# Altium footprint library 532614004.PcbLib: 3 footprints
Each footprint in its own frame and in the unit in brackets; x right, y up, seen from the top. Pads: shape width x height; smd on the part's side, far side on the other; paste and mask are expansions set on the pad; w line width, h text height; cw(c..) or ccw(c..) is an arc to the next point about the centre after c.
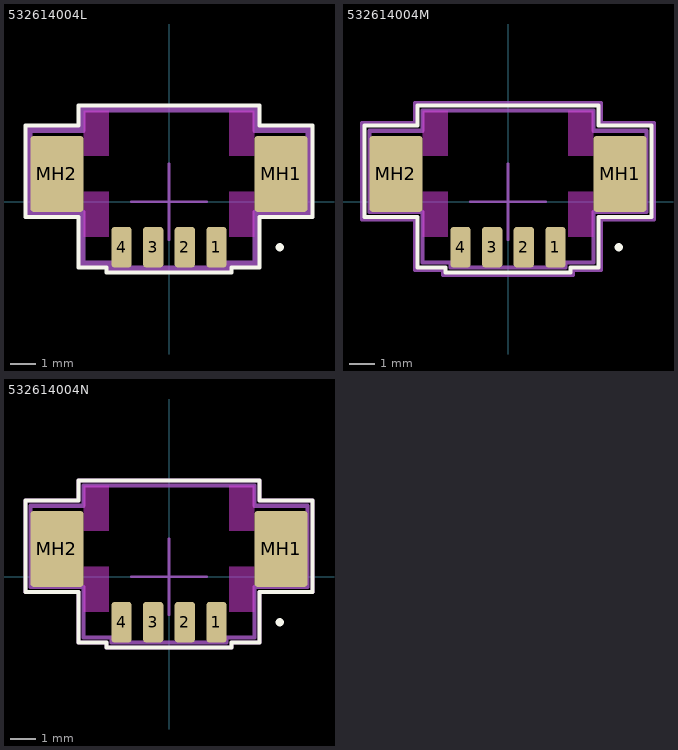
[diagram p0: the footprints below, top view; thin cyan lines are the x and y axes]

## 532614004L [mm] "Molex PicoBlade 4-Pin Right-Angle Connector with Gold Coating"
height 3.4
pads (6):
  rrect31% 0.8x1.6 smd: 1(1.875,-1.8) 2(0.625,-1.8) 3(-0.625,-1.8) 4(-1.875,-1.8)
  rrect12% 2.1x3 smd: MH1(4.425,1.1) MH2(-4.425,1.1)
Top Layer keep-out:
  rectangle: -3.375,3.6 -2.375,1.8
  rectangle: 3.375,3.6 2.375,1.8
  rectangle: -3.375,-1.4 -2.375,0.4
  rectangle: 3.375,-1.4 2.375,0.4
Top Overlay:
  circle w0.16: c4.375,-1.8 r0.08
  lines w0.16: -5.675,-0.6 -3.575,-0.6 -3.575,-2.6 -2.475,-2.6 -2.475,-2.8 2.475,-2.8 2.475,-2.6 3.575,-2.6 3.575,-0.6 5.675,-0.6 5.675,3 3.575,3 3.575,3.8 -3.575,3.8 -3.575,3 -5.675,3 -5.675,-0.6
Top Component Center:
  lines w0.1: -1.5,0 1.5,0 ; 0,-1.5 0,1.5
Top Courtyard:
  lines w0.16: -5.575,-0.5 -3.475,-0.5 -3.475,-2.5 -2.375,-2.5 -2.375,-2.7 2.375,-2.7 2.375,-2.5 3.475,-2.5 3.475,-0.5 5.575,-0.5 5.575,2.9 3.475,2.9 3.475,3.7 -3.475,3.7 -3.475,2.9 -5.575,2.9 -5.575,-0.5
Top Assembly:
  lines w0.16: -5.475,-0.4 -3.375,-0.4 -3.375,-2.4 -2.275,-2.4 -2.275,-2.6 2.275,-2.6 2.275,-2.4 3.375,-2.4 3.375,-0.4 5.475,-0.4 5.475,2.8 3.375,2.8 3.375,3.6 -3.375,3.6 -3.375,2.8 -5.475,2.8 -5.475,-0.4
3D body "532614004L.STEP": height 3.4, standoff 0, extent -5.075,-2 5.075,3.2

## 532614004M [mm] "Molex PicoBlade 4-Pin Right-Angle Connector with Gold Coating"
height 3.4
pads (6):
  rrect31% 0.8x1.6 smd: 1(1.875,-1.8) 2(0.625,-1.8) 3(-0.625,-1.8) 4(-1.875,-1.8)
  rrect12% 2.1x3 smd: MH1(4.425,1.1) MH2(-4.425,1.1)
Top Layer keep-out:
  rectangle: -3.375,3.6 -2.375,1.8
  rectangle: 3.375,3.6 2.375,1.8
  rectangle: -3.375,-1.4 -2.375,0.4
  rectangle: 3.375,-1.4 2.375,0.4
Top Overlay:
  circle w0.16: c4.375,-1.8 r0.08
  lines w0.16: -5.675,-0.6 -3.575,-0.6 -3.575,-2.6 -2.475,-2.6 -2.475,-2.8 2.475,-2.8 2.475,-2.6 3.575,-2.6 3.575,-0.6 5.675,-0.6 5.675,3 3.575,3 3.575,3.8 -3.575,3.8 -3.575,3 -5.675,3 -5.675,-0.6
Top Component Center:
  lines w0.1: -1.5,0 1.5,0 ; 0,-1.5 0,1.5
Top Courtyard:
  lines w0.16: -5.775,-0.7 -3.675,-0.7 -3.675,-2.7 -2.575,-2.7 -2.575,-2.9 2.575,-2.9 2.575,-2.7 3.675,-2.7 3.675,-0.7 5.775,-0.7 5.775,3.1 3.675,3.1 3.675,3.9 -3.675,3.9 -3.675,3.1 -5.775,3.1 -5.775,-0.7
Top Assembly:
  lines w0.16: -5.475,-0.4 -3.375,-0.4 -3.375,-2.4 -2.275,-2.4 -2.275,-2.6 2.275,-2.6 2.275,-2.4 3.375,-2.4 3.375,-0.4 5.475,-0.4 5.475,2.8 3.375,2.8 3.375,3.6 -3.375,3.6 -3.375,2.8 -5.475,2.8 -5.475,-0.4
3D body "532614004M.STEP": height 3.4, standoff 0, extent -5.075,-2 5.075,3.2

## 532614004N [mm] "Molex PicoBlade 4-Pin Right-Angle Connector with Gold Coating"
height 3.4
pads (6):
  rrect31% 0.8x1.6 smd: 1(1.875,-1.8) 2(0.625,-1.8) 3(-0.625,-1.8) 4(-1.875,-1.8)
  rrect12% 2.1x3 smd: MH1(4.425,1.1) MH2(-4.425,1.1)
Top Layer keep-out:
  rectangle: -3.375,3.6 -2.375,1.8
  rectangle: 3.375,3.6 2.375,1.8
  rectangle: -3.375,-1.4 -2.375,0.4
  rectangle: 3.375,-1.4 2.375,0.4
Top Overlay:
  circle w0.16: c4.375,-1.8 r0.08
  lines w0.16: -5.675,-0.6 -3.575,-0.6 -3.575,-2.6 -2.475,-2.6 -2.475,-2.8 2.475,-2.8 2.475,-2.6 3.575,-2.6 3.575,-0.6 5.675,-0.6 5.675,3 3.575,3 3.575,3.8 -3.575,3.8 -3.575,3 -5.675,3 -5.675,-0.6
Top Component Center:
  lines w0.1: -1.5,0 1.5,0 ; 0,-1.5 0,1.5
Top Courtyard:
  lines w0.16: -5.675,-0.6 -3.575,-0.6 -3.575,-2.6 -2.475,-2.6 -2.475,-2.8 2.475,-2.8 2.475,-2.6 3.575,-2.6 3.575,-0.6 5.675,-0.6 5.675,3 3.575,3 3.575,3.8 -3.575,3.8 -3.575,3 -5.675,3 -5.675,-0.6
Top Assembly:
  lines w0.16: -5.475,-0.4 -3.375,-0.4 -3.375,-2.4 -2.275,-2.4 -2.275,-2.6 2.275,-2.6 2.275,-2.4 3.375,-2.4 3.375,-0.4 5.475,-0.4 5.475,2.8 3.375,2.8 3.375,3.6 -3.375,3.6 -3.375,2.8 -5.475,2.8 -5.475,-0.4
3D body "532614004N.STEP": height 3.4, standoff 0, extent -5.075,-2 5.075,3.2